# Altium schematic symbol library GRIx4_1.SCHLIB: 25 symbols
Pins are listed as number, name and electrical type; pins without a type are passive.

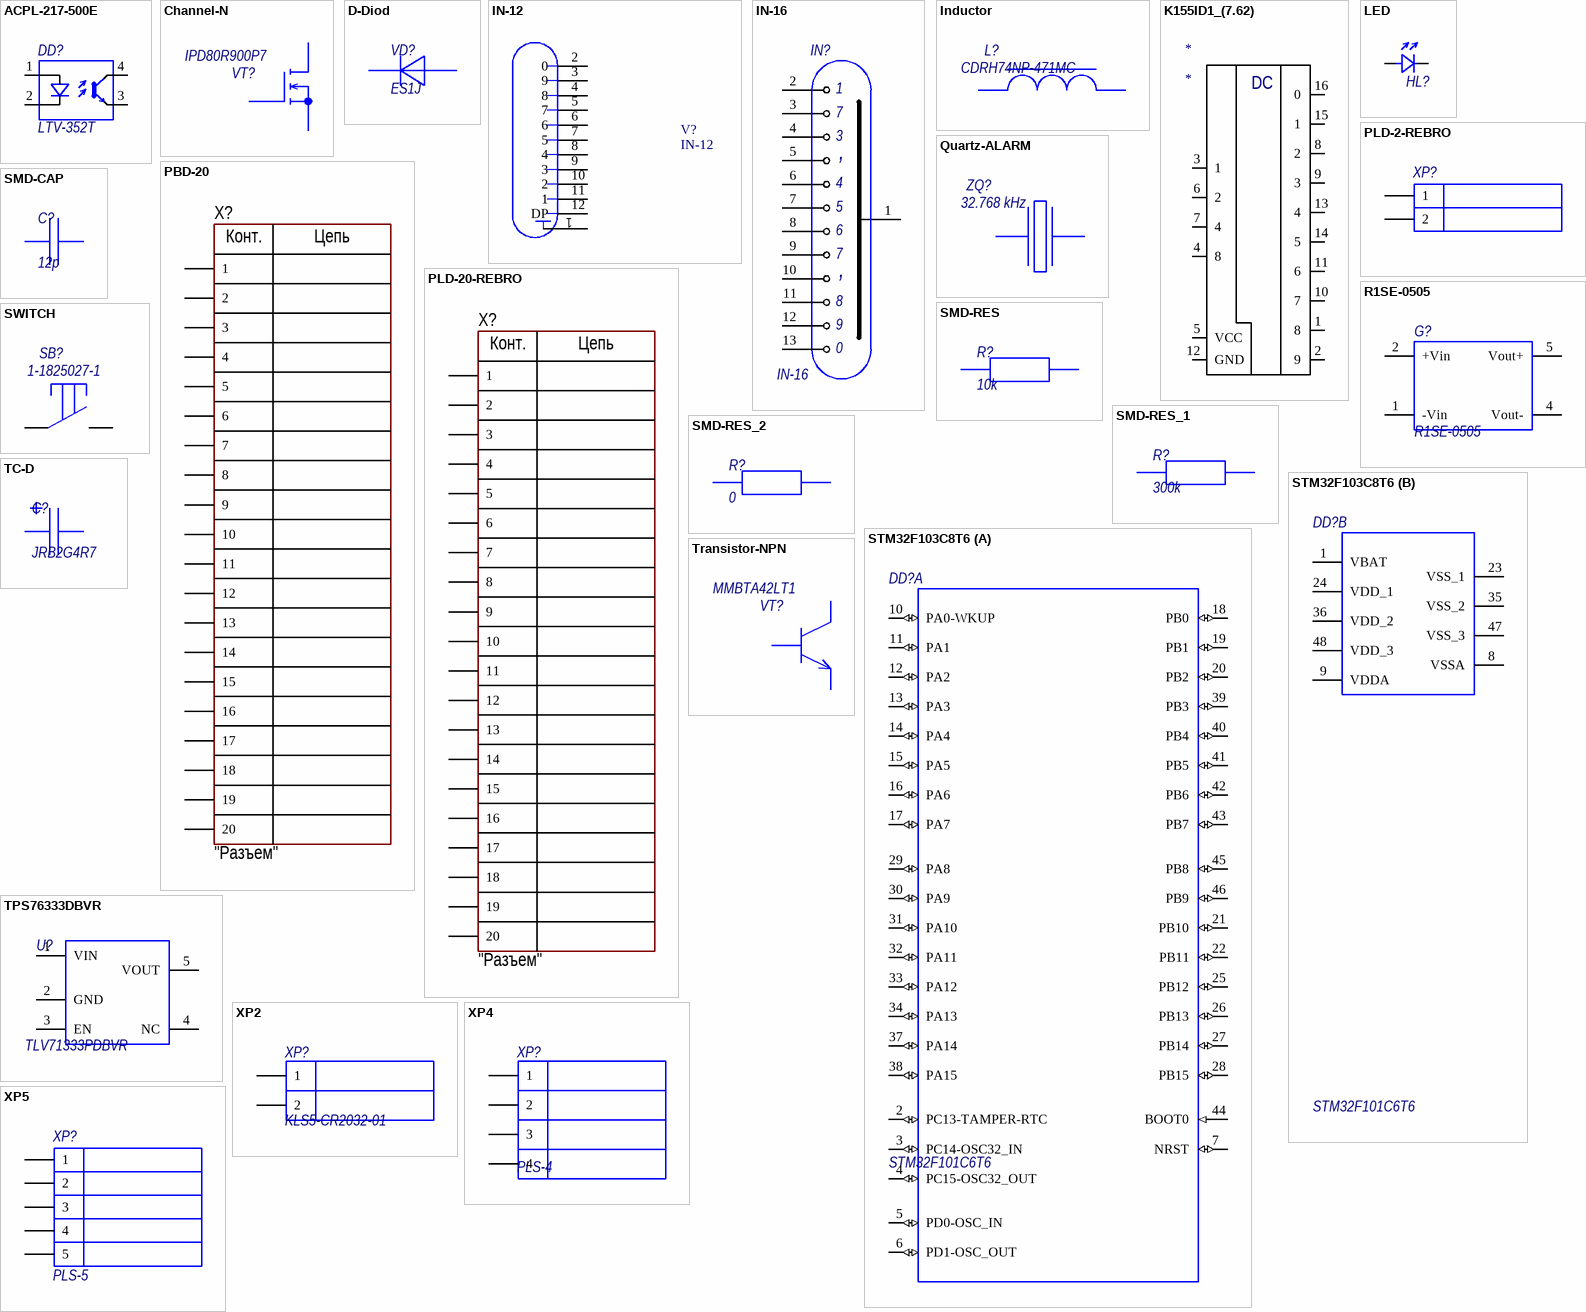
[diagram p0: symbols ACPL-217-500E to XP5]

## ACPL-217-500E
designator DD?, comment LTV-352T
Isolator
footprint SO-4
footprint SOP-4W (SOP, 4-Leads, Body 3,85x4,40mm, Pitch 2,54mm, IPC Medium Density)
pins: 1 LED-, 2 LED+, 3 PD1C, 4 PD1A

## Channel-N
designator VT?, comment IPD80R900P7
Transistor; Обозначение для заказа: IRLML2502TRPBF
footprint SOT-23 (SOT23, 3-Leads, Body 2,86x2,30mm, Pitch 0,95mm, IPC Medium Density)
footprint SOT-223-T (SOT223, 4-Leads, Body 6,50x7,00mm (avg), Pitch 2,30mm, IPC Medium Density)
footprint DPAK
pins: 1 G "Затвор", 2 D "Сток", 3 S "Исток"

## D-Diod
designator VD?, comment ES1J
Diod
footprint SOD-123 (SODFL, 2-Leads, Body 1,50x3,62mm, IPC Medium Density)
footprint DO-214 (Molded Diode, 2-Leads, Body 4,20x2,67mm, IPC Medium Density)
pins: 1 А "Анод", 2 К "Катод"

## IN-12
designator V?
Vacuum Indicator; Published: 8-Jun-2000; LatestRevisionDate: 17-Jul-2002; LatestRevisionNote: Re-released for DXP Platform.; PackageReference: VTUBE-9; Publisher: Altium Limited; PackageDescription: Vacuum Tube; 9 Leads
footprint DIODE: IN-12 (Vacuum Indicator)
pins: 1 A, 2 0, 3 9, 4 8, 5 7, 6, 7 5, 8 4, 9 3, 10 2, 11 1, 12 DP

## IN-16
designator IN?
Isolator
footprint IN-16
pins: 1 LED-, 2 1, 3 1, 4 1, 5 1, 6 1, 7 1, 8 1, 9 1, 10 1, 11 1, 12 1, 13 1
text: ,; 0

## Inductor
designator L?, comment CDRH74NP-471MC
footprint CM453232
footprint SRR0603
footprint SRR0603B
pins: 1, 2

## K155ID1_(7.62)
designator *
footprint DIP-16_(7.62)
pins: 1 8, 2 9, 3 1, 4 8, 5 VCC, 6 2, 7 4, 8 2, 9 3, 10 7, 11 6, 12 GND, 13 4, 14 5, 15 1, 16 0
text: DC

## LED
designator HL?  (value not drawn)
footprint LED 0805
footprint LED 0603
pins: 1 K "R", 2 A

## PBD-20
designator X?  CommentText: "Разъем"
Manufacturer: Connfly; ValueManufacturerPartNumber: Connector, 20pin, 2.54mm, 500VAC, 3A; PartNumber: PLD-20; TypeConnector: Connector; VoltageMax: 500VAC; Pitch: 2.54mm; CurrentMax: 3A; Multichannel: 20pin; HelpURL: https://www.chipdip.ru/product/pld-20
footprint CON: PBD-20
pins: 1, 2, 3 (power), 4 (power), 5 (power), 6 (power), 7 (power), 8 (power), 9 (power), 10 (power), 11 (power), 12 (power), 13 (power), 14 (power), 15 (power), 16 (power), 17 (power), 18 (power), 19 (power), 20 (power)
text: Конт.; Цепь

## PLD-2-REBRO
designator XP?
Connector
footprint CON: PLS-2-rebro
pins: 1, 2

## PLD-20-REBRO
designator X?  CommentText: "Разъем"
Manufacturer: Connfly; ValueManufacturerPartNumber: Connector, 20pin, 2.54mm, 500VAC, 3A; PartNumber: PLD-20; TypeConnector: Connector; VoltageMax: 500VAC; Pitch: 2.54mm; CurrentMax: 3A; Multichannel: 20pin; HelpURL: https://www.chipdip.ru/product/pld-20
footprint CON: PLD-20-rebro
pins: 1, 2, 3 (power), 4 (power), 5 (power), 6 (power), 7 (power), 8 (power), 9 (power), 10 (power), 11 (power), 12 (power), 13 (power), 14 (power), 15 (power), 16 (power), 17 (power), 18 (power), 19 (power), 20 (power)
text: Конт.; Цепь

## Quartz-ALARM
designator ZQ?, comment 32.768 kHz
Quartz
footprint SMD08038C4 (SMD05032C4)
pins: 1, 3

## R1SE-0505
designator G?
POWER
footprint R1SE-0505
pins: 1 -Vin, 2 +Vin, 4 Vout-, 5 Vout+

## SMD-CAP
designator C?, comment 12p
Capacitor
footprint CAPACITOR 0402
footprint CAPACITOR 0603
footprint CAPACITOR 0805
footprint CAPACITOR 1206
footprint CAPASITOR 2512
pins: 1, 2

## SMD-RES
designator R?, comment 10k
Resistor
footprint R0402 (1005M)
footprint RESISTOR 0603
footprint RESISTOR 0805
footprint RESISTOR 1206
footprint RESISTOR 2512
pins: 1, 2

## SMD-RES_1
designator R?, comment 300k
Resistor
footprint R0402 (1005M)
footprint RESISTOR 0805
footprint RESISTOR 0805
footprint RESISTOR 1206
footprint Resistor 2512
footprint RESISTOR 0603
pins: 1, 2

## SMD-RES_2
designator R?, comment 0
Resistor
footprint RESISTOR 0402
footprint RESISTOR 0603
footprint RESISTOR 0805
footprint RESISTOR 1206
footprint RESISTOR 2512
footprint JAMP 0603
pins: 1, 2

## STM32F103C8T6
designator DD?, comment STM32F101C6T6
Controller
footprint 48-LQFP (QFP, 48-Leads, Body 7x7mm, Pitch 0.5mm, IPC Medium Density)
part A pins: 2 PC13-TAMPER-RTC (io) "PC13-TAMPER-RTC/PC13/TAMPER-RTC", 3 PC14-OSC32_IN (io) "PC14-OSC32_IN/PC14/OSC32_IN", 4 PC15-OSC32_OUT (io) "PC15-OSC32_OUT/PC15/OSC32_OUT", 5 PD0-OSC_IN (io) "PD0/OSC_IN", 6 PD1-OSC_OUT (io) "PD1/OSC_OUT", 7 NRST (io), 10 PA0-WKUP (io) "PA0-WKUP/PA0/WKUP/USART2_CTS/ADC12_IN0/TIM2_CH1_ETR", 11 PA1 (io) "PA1/USART2_RTS/ADC12_IN1/TIM2_CH2", 12 PA2 (io) "PA2/USART2_TX/ADC12_IN2/TIM2_CH3", 13 PA3 (io) "PA3/USART2_RX/ADC12_IN3/TIM2_CH4", 14 PA4 (io) "PA4/SPI1_NSS/USART2_CK/ADC12_IN4", 15 PA5 (io) "PA5/SPI1_SCK/ADC12_IN5", 16 PA6 (io) "PA6/SPI1_MISO/ADC12_IN6/TIM3_CH1/TIM1_BKIN", 17 PA7 (io) "PA7/SPI1_MOSI/ADC12_IN7/TIM3_CH2/TIM1_CH1N", 18 PB0 (io) "PB0/ADC12_IN8/TIM3_CH3/TIM1_CH2N", 19 PB1 (io) "PB1/ADC12_IN9/TIM3_CH4/TIM1_CH3N", 20 PB2 (io) "PB2/BOOT1", 21 PB10 (io) "PB10/I2C2_SCL/USART3_TX/TIM2_CH3", 22 PB11 (io) "PB11/I2C2_SDA/USART3_RX/TIM2_CH4", 25 PB12 (io) "PB12/SPI2_NSS/I2C2_SMBAl/USART3_CK/TIM1_BKIN", 26 PB13 (io) "PB13/SPI2_SCK/USART3_CTS/TIM1_CH1N", 27 PB14 (io) "PB14/SPI2_MISO/USART3_RTS/TIM1_CH2N", 28 PB15 (io) "PB15/SPI2_MOSI/TIM1_CH3N", 29 PA8 (io) "PA8/USART1_CK/TIM1_CH1/MCO", 30 PA9 (io) "PA9/USART1_TX/TIM1_CH2", 31 PA10 (io) "PA10/USART1_RX/TIM1_CH3", 32 PA11 (io) "PA11/USART1_CTS/CANRX/USBDM/TIM1_CH4", 33 PA12 (io) "PA12/USART1_RTS/CANTX/USBDP/TIM1_ETR", 34 PA13 (io) "PA13/JTMS/SWDIO", 37 PA14 (io) "PA14/JTCK/SWCLK", 38 PA15 (io) "PA15/JTDI/TIM2_CH1_ETR/SPI1_NSS", 39 PB3 (io) "PB3/JTDO/TIM2_CH2/TRACESWO/SPI1_SCK", 40 PB4 (io) "PB4/NJTRST/TIM3_CH1/SPI1_MISO", 41 PB5 (io) "PB5/I2C1_SMBAI/TIM3_CH2/SPI1_MOSI", 42 PB6 (io) "PB6/I2C1_SCL/TIM4_CH1/USART1_TX", 43 PB7 (io) "PB7/I2C1_SDA/TIM4_CH2/USART1_RX", 44 BOOT0 (in), 45 PB8 (io) "PB8/TIM4_CH3/I2C1_SCL/CANRX", 46 PB9 (io) "PB9/TIM4_CH4/I2C1_SDA/CANTX"
part B pins: 1 VBAT (power), 8 VSSA (power), 9 VDDA (power), 23 VSS_1 (power), 24 VDD_1 (power), 35 VSS_2 (power), 36 VDD_2 (power), 47 VSS_3 (power), 48 VDD_3 (power)

## SWITCH
designator SB?, comment 1-1825027-1
Button
footprint BUTTON
footprint IT-1102S
footprint BUTTON-R
pins: 1, 2

## TC-D
designator C?, comment JRB2G4R7
TC-D; Value: {Value}
footprint CAPASITOR 2512
footprint CAPASITOR R10
pins: 1, 2

## TPS76333DBVR
designator U?, comment TLV71333PDBVR
POWER
footprint SOT23-5 (SOT23, 5-Leads, Body 2,90x2,80mm, Pitch 0,95mm, IPC Medium Density)
pins: 1 VIN, 2 GND, 3 EN, 4 NC, 5 VOUT

## Transistor-NPN
designator VT?, comment MMBTA42LT1
Transistor; Обозначение для заказа: IRLML2502TRPBF
footprint SOT-23
footprint SOT-223-T (SOT223, 4-Leads, Body 6,50x7,00mm (avg), Pitch 2,30mm, IPC Medium Density)
pins: 1 Б "База", 2 К "Коллектор", 3 Э "Эмиттер"

## XP2
designator XP?, comment KLS5-CR2032-01
Connector
footprint PLS-2
footprint CR2032
pins: 1, 2

## XP4
designator XP?, comment PLS-4
Connector
footprint PLS-4
pins: 1, 2, 3, 4

## XP5
designator XP?, comment PLS-5
Connector
footprint PLS-5
footprint USB-mini
pins: 1, 2, 3, 4, 5